# Altium footprint library BQ25798.PcbLib: 1 footprints
Each footprint in its own frame and in the unit in brackets; x right, y up, seen from the top. Pads: shape width x height; smd on the part's side, far side on the other; paste and mask are expansions set on the pad; w line width, h text height; cw(c..) or ccw(c..) is an arc to the next point about the centre after c.
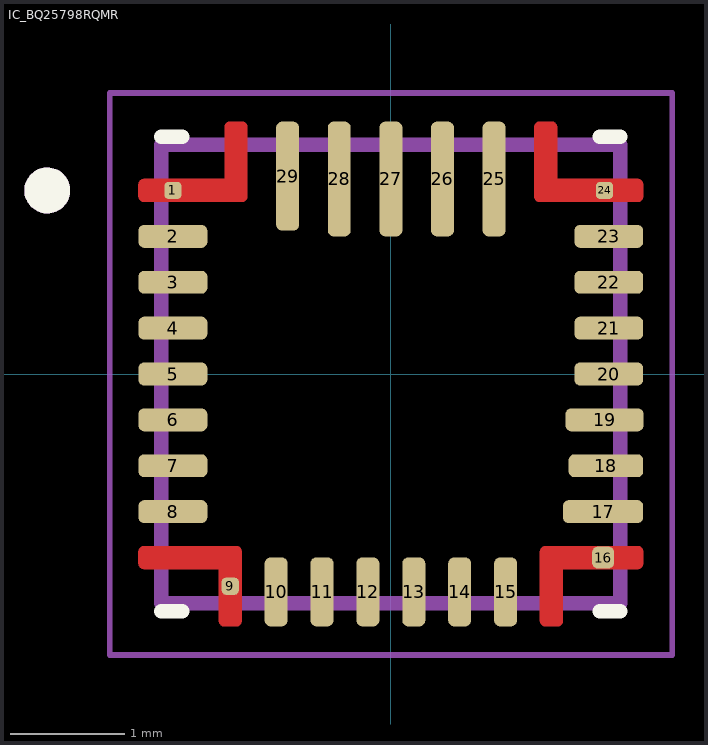
[diagram p0: the footprint, top view; thin cyan lines are the x and y axes]

## IC_BQ25798RQMR [mm] "The BQ25798 is a highly integrated buck-boost battery charger IC from Texas Instruments, designed for single-cell to four-cell lithium-ion and lithium-polymer battery packs. It supports both charging and system power path management with wide input voltage support (3.6V–24V) and configurable charge currents up to 5A. The charger integrates high-efficiency synchronous buck-boost regulation, enabling it to maintain consistent output whether the adapter voltage is above, below, or equal to the battery voltage. Key pins include VBUS (adapter input), BAT (battery connection), SYS (system output), PMID (shared power rail), SDA/SCL (I²C interface), TS (battery NTC input), and CE (charger enable). It also features programmable safety timers, NTC-based temperature sensing, and power source priority control via the PSEL pin. The REGN and VCC LDOs support internal and external biasing needs, while the exposed thermal pad and PGND/AGND provide proper grounding and heat dissipation."
height 1
pads (29):
  rrect50% 0.15x0.15 smd paste-1 mask+0: 1(-1.9,1.6) 9(-1.4,-1.85) 24(1.863,1.6)
  rrect50% 0.6x0.2 smd mask+0: 2(-1.9,1.2) 3(-1.9,0.8) 4(-1.9,0.4) 5(-1.9,0) 6(-1.9,-0.4) 7(-1.9,-0.8) 8(-1.9,-1.2) 20(1.9,0) 21(1.9,0.4) 22(1.9,0.8) 23(1.9,1.2)
  rrect50% 0.2x0.6 smd mask+0: 10(-1,-1.9) 11(-0.6,-1.9) 12(-0.2,-1.9) 13(0.2,-1.9) 14(0.6,-1.9) 15(1,-1.9)
  rrect50% 0.19x0.19 smd paste-1 mask+0: 16(1.85,-1.6)
  rrect50% 0.7x0.2 smd mask+0: 17(1.85,-1.2)
  rrect50% 0.65x0.2 smd mask+0: 18(1.875,-0.8)
  rrect50% 0.68x0.2 smd mask+0: 19(1.863,-0.4)
  rrect50% 0.2x1 smd mask+0: 25(0.9,1.7) 26(0.45,1.7) 27(0,1.7) 28(-0.45,1.7)
  rrect50% 0.2x0.95 smd mask+0: 29(-0.9,1.725)
Top Layer:
  region: -1.292,2.199 -1.29,2.199 -1.287,2.198 -1.285,2.198 -1.282,2.197 -1.28,2.196 -1.277,2.195 -1.275,2.193 -1.273,2.192 -1.271,2.19 -1.269,2.189 -1.267,2.187 -1.265,2.185 -1.263,2.183 -1.261,2.181 -1.26,2.179 -1.258,2.177 -1.257,2.175 -1.255,2.173 -1.254,2.17 -1.253,2.168 -1.252,2.165 -1.252,2.163 -1.251,2.16 -1.251,2.158 -1.25,2.155 -1.25,2.153 -1.25,2.15 -1.25,1.55 -1.25,1.547 -1.25,1.545 -1.251,1.542 -1.251,1.54 -1.252,1.537 -1.252,1.535 -1.253,1.532 -1.254,1.53 -1.255,1.527 -1.257,1.525 -1.258,1.523 -1.26,1.521 -1.261,1.519 -1.263,1.517 -1.265,1.515 -1.267,1.513 -1.269,1.511 -1.271,1.51 -1.273,1.508 -1.275,1.507 -1.277,1.505 -1.28,1.504 -1.282,1.503 -1.285,1.502 -1.287,1.502 -1.29,1.501 -1.292,1.501 -1.295,1.5 -2.155,1.5 -2.158,1.501 -2.16,1.501 -2.163,1.502 -2.165,1.502 -2.168,1.503 -2.17,1.504 -2.173,1.505 -2.175,1.507 -2.177,1.508 -2.179,1.51 -2.181,1.511 -2.183,1.513 -2.185,1.515 -2.187,1.517 -2.189,1.519 -2.19,1.521 -2.192,1.523 -2.193,1.525 -2.195,1.527 -2.196,1.53 -2.197,1.532 -2.198,1.535 -2.198,1.537 -2.199,1.54 -2.199,1.542 -2.2,1.545 -2.2,1.547 -2.2,1.55 -2.2,1.65 -2.2,1.653 -2.2,1.655 -2.199,1.658 -2.199,1.66 -2.198,1.663 -2.198,1.665 -2.197,1.668 -2.196,1.67 -2.195,1.673 -2.193,1.675 -2.192,1.677 -2.19,1.679 -2.189,1.681 -2.187,1.683 -2.185,1.685 -2.183,1.687 -2.181,1.689 -2.179,1.69 -2.177,1.692 -2.175,1.693 -2.173,1.695 -2.17,1.696 -2.168,1.697 -2.165,1.698 -2.163,1.698 -2.16,1.699 -2.158,1.699 -2.155,1.7 -1.45,1.7 -1.45,2.15 -1.45,2.153 -1.45,2.155 -1.449,2.158 -1.449,2.16 -1.448,2.163 -1.448,2.165 -1.447,2.168 -1.446,2.17 -1.445,2.173 -1.443,2.175 -1.442,2.177 -1.44,2.179 -1.439,2.181 -1.437,2.183 -1.435,2.185 -1.433,2.187 -1.431,2.189 -1.429,2.19 -1.427,2.192 -1.425,2.193 -1.423,2.195 -1.42,2.196 -1.418,2.197 -1.415,2.198 -1.413,2.198 -1.41,2.199 -1.408,2.199 -1.405,2.2 -1.295,2.2
  region: 1.408,2.199 1.41,2.199 1.413,2.198 1.415,2.198 1.418,2.197 1.42,2.196 1.423,2.195 1.425,2.193 1.427,2.192 1.429,2.19 1.431,2.189 1.433,2.187 1.435,2.185 1.437,2.183 1.439,2.181 1.44,2.179 1.442,2.177 1.443,2.175 1.445,2.173 1.446,2.17 1.447,2.168 1.448,2.165 1.448,2.163 1.449,2.16 1.449,2.158 1.45,2.155 1.45,2.153 1.45,2.15 1.45,1.7 2.155,1.7 2.158,1.699 2.16,1.699 2.163,1.698 2.165,1.698 2.168,1.697 2.17,1.696 2.173,1.695 2.175,1.693 2.177,1.692 2.179,1.69 2.181,1.689 2.183,1.687 2.185,1.685 2.187,1.683 2.189,1.681 2.19,1.679 2.192,1.677 2.193,1.675 2.195,1.673 2.196,1.67 2.197,1.668 2.198,1.665 2.198,1.663 2.199,1.66 2.199,1.658 2.2,1.655 2.2,1.653 2.2,1.65 2.2,1.55 2.2,1.547 2.2,1.545 2.199,1.542 2.199,1.54 2.198,1.537 2.198,1.535 2.197,1.532 2.196,1.53 2.195,1.527 2.193,1.525 2.192,1.523 2.19,1.521 2.189,1.519 2.187,1.517 2.185,1.515 2.183,1.513 2.181,1.511 2.179,1.51 2.177,1.508 2.175,1.507 2.173,1.505 2.17,1.504 2.168,1.503 2.165,1.502 2.163,1.502 2.16,1.501 2.158,1.501 2.155,1.5 1.295,1.5 1.292,1.501 1.29,1.501 1.287,1.502 1.285,1.502 1.282,1.503 1.28,1.504 1.277,1.505 1.275,1.507 1.273,1.508 1.271,1.51 1.269,1.511 1.267,1.513 1.265,1.515 1.263,1.517 1.261,1.519 1.26,1.521 1.258,1.523 1.257,1.525 1.255,1.527 1.254,1.53 1.253,1.532 1.252,1.535 1.252,1.537 1.251,1.54 1.251,1.542 1.25,1.545 1.25,1.547 1.25,1.55 1.25,2.15 1.25,2.153 1.25,2.155 1.251,2.158 1.251,2.16 1.252,2.163 1.252,2.165 1.253,2.168 1.254,2.17 1.255,2.173 1.257,2.175 1.258,2.177 1.26,2.179 1.261,2.181 1.263,2.183 1.265,2.185 1.267,2.187 1.269,2.189 1.271,2.19 1.273,2.192 1.275,2.193 1.277,2.195 1.28,2.196 1.282,2.197 1.285,2.198 1.287,2.198 1.29,2.199 1.292,2.199 1.295,2.2 1.405,2.2
  region: -1.342,-1.501 -1.34,-1.501 -1.337,-1.502 -1.335,-1.502 -1.332,-1.503 -1.33,-1.504 -1.327,-1.505 -1.325,-1.507 -1.323,-1.508 -1.321,-1.51 -1.319,-1.511 -1.317,-1.513 -1.315,-1.515 -1.313,-1.517 -1.311,-1.519 -1.31,-1.521 -1.308,-1.523 -1.307,-1.525 -1.305,-1.527 -1.304,-1.53 -1.303,-1.532 -1.302,-1.535 -1.302,-1.537 -1.301,-1.54 -1.301,-1.542 -1.3,-1.545 -1.3,-1.547 -1.3,-1.55 -1.3,-2.15 -1.3,-2.153 -1.3,-2.155 -1.301,-2.158 -1.301,-2.16 -1.302,-2.163 -1.302,-2.165 -1.303,-2.168 -1.304,-2.17 -1.305,-2.173 -1.307,-2.175 -1.308,-2.177 -1.31,-2.179 -1.311,-2.181 -1.313,-2.183 -1.315,-2.185 -1.317,-2.187 -1.319,-2.189 -1.321,-2.19 -1.323,-2.192 -1.325,-2.193 -1.327,-2.195 -1.33,-2.196 -1.332,-2.197 -1.335,-2.198 -1.337,-2.198 -1.34,-2.199 -1.342,-2.199 -1.345,-2.2 -1.455,-2.2 -1.458,-2.199 -1.46,-2.199 -1.463,-2.198 -1.465,-2.198 -1.468,-2.197 -1.47,-2.196 -1.473,-2.195 -1.475,-2.193 -1.477,-2.192 -1.479,-2.19 -1.481,-2.189 -1.483,-2.187 -1.485,-2.185 -1.487,-2.183 -1.489,-2.181 -1.49,-2.179 -1.492,-2.177 -1.493,-2.175 -1.495,-2.173 -1.496,-2.17 -1.497,-2.168 -1.498,-2.165 -1.498,-2.163 -1.499,-2.16 -1.499,-2.158 -1.5,-2.155 -1.5,-2.153 -1.5,-2.15 -1.5,-1.7 -2.155,-1.7 -2.158,-1.699 -2.16,-1.699 -2.163,-1.698 -2.165,-1.698 -2.168,-1.697 -2.17,-1.696 -2.173,-1.695 -2.175,-1.693 -2.177,-1.692 -2.179,-1.69 -2.181,-1.689 -2.183,-1.687 -2.185,-1.685 -2.187,-1.683 -2.189,-1.681 -2.19,-1.679 -2.192,-1.677 -2.193,-1.675 -2.195,-1.673 -2.196,-1.67 -2.197,-1.668 -2.198,-1.665 -2.198,-1.663 -2.199,-1.66 -2.199,-1.658 -2.2,-1.655 -2.2,-1.653 -2.2,-1.65 -2.2,-1.55 -2.2,-1.547 -2.2,-1.545 -2.199,-1.542 -2.199,-1.54 -2.198,-1.537 -2.198,-1.535 -2.197,-1.532 -2.196,-1.53 -2.195,-1.527 -2.193,-1.525 -2.192,-1.523 -2.19,-1.521 -2.189,-1.519 -2.187,-1.517 -2.185,-1.515 -2.183,-1.513 -2.181,-1.511 -2.179,-1.51 -2.177,-1.508 -2.175,-1.507 -2.173,-1.505 -2.17,-1.504 -2.168,-1.503 -2.165,-1.502 -2.163,-1.502 -2.16,-1.501 -2.158,-1.501 -2.155,-1.5 -1.345,-1.5
  region: 2.158,-1.501 2.16,-1.501 2.163,-1.502 2.165,-1.502 2.168,-1.503 2.17,-1.504 2.173,-1.505 2.175,-1.507 2.177,-1.508 2.179,-1.51 2.181,-1.511 2.183,-1.513 2.185,-1.515 2.187,-1.517 2.189,-1.519 2.19,-1.521 2.192,-1.523 2.193,-1.525 2.195,-1.527 2.196,-1.53 2.197,-1.532 2.198,-1.535 2.198,-1.537 2.199,-1.54 2.199,-1.542 2.2,-1.545 2.2,-1.547 2.2,-1.55 2.2,-1.65 2.2,-1.653 2.2,-1.655 2.199,-1.658 2.199,-1.66 2.198,-1.663 2.198,-1.665 2.197,-1.668 2.196,-1.67 2.195,-1.673 2.193,-1.675 2.192,-1.677 2.19,-1.679 2.189,-1.681 2.187,-1.683 2.185,-1.685 2.183,-1.687 2.181,-1.689 2.179,-1.69 2.177,-1.692 2.175,-1.693 2.173,-1.695 2.17,-1.696 2.168,-1.697 2.165,-1.698 2.163,-1.698 2.16,-1.699 2.158,-1.699 2.155,-1.7 1.5,-1.7 1.5,-2.15 1.5,-2.153 1.5,-2.155 1.499,-2.158 1.499,-2.16 1.498,-2.163 1.498,-2.165 1.497,-2.168 1.496,-2.17 1.495,-2.173 1.493,-2.175 1.492,-2.177 1.49,-2.179 1.489,-2.181 1.487,-2.183 1.485,-2.185 1.483,-2.187 1.481,-2.189 1.479,-2.19 1.477,-2.192 1.475,-2.193 1.473,-2.195 1.47,-2.196 1.468,-2.197 1.465,-2.198 1.463,-2.198 1.46,-2.199 1.458,-2.199 1.455,-2.2 1.345,-2.2 1.342,-2.199 1.34,-2.199 1.337,-2.198 1.335,-2.198 1.332,-2.197 1.33,-2.196 1.327,-2.195 1.325,-2.193 1.323,-2.192 1.321,-2.19 1.319,-2.189 1.317,-2.187 1.315,-2.185 1.313,-2.183 1.311,-2.181 1.31,-2.179 1.308,-2.177 1.307,-2.175 1.305,-2.173 1.304,-2.17 1.303,-2.168 1.302,-2.165 1.302,-2.163 1.301,-2.16 1.301,-2.158 1.3,-2.155 1.3,-2.153 1.3,-2.15 1.3,-1.55 1.3,-1.547 1.3,-1.545 1.301,-1.542 1.301,-1.54 1.302,-1.537 1.302,-1.535 1.303,-1.532 1.304,-1.53 1.305,-1.527 1.307,-1.525 1.308,-1.523 1.31,-1.521 1.311,-1.519 1.313,-1.517 1.315,-1.515 1.317,-1.513 1.319,-1.511 1.321,-1.51 1.323,-1.508 1.325,-1.507 1.327,-1.505 1.33,-1.504 1.332,-1.503 1.335,-1.502 1.337,-1.502 1.34,-1.501 1.342,-1.501 1.345,-1.5 2.155,-1.5
Top Overlay:
  circle w0.2: c-2.995,1.6 r0.1
  lines w0.127: -2,-2.07 -1.82,-2.07 ; -2,2.07 -1.82,2.07 ; 1.82,-2.07 2,-2.07 ; 1.82,2.07 2,2.07
Top Paste:
  drawing of 4 lines, arcs and shapes, not listed
Top Solder:
  drawing of 29 lines, arcs and shapes, not listed
Mechanical 13:
  circle w0.2: c-2.995,1.6 r0.1
  lines w0.127: -2,-2 2,-2 2,2 -2,2 -2,-2
Mechanical 15:
  lines w0.05: -2.45,-2.45 -2.45,2.45 2.452,2.45 2.452,-2.45 -2.45,-2.45
3D body "step_temp.STEP": height 1, standoff 0, extent -2,-2 2,2